# Altium schematic symbol library TSC.SchLib: 34 symbols
Pins are listed as number, name and electrical type; pins without a type are passive.

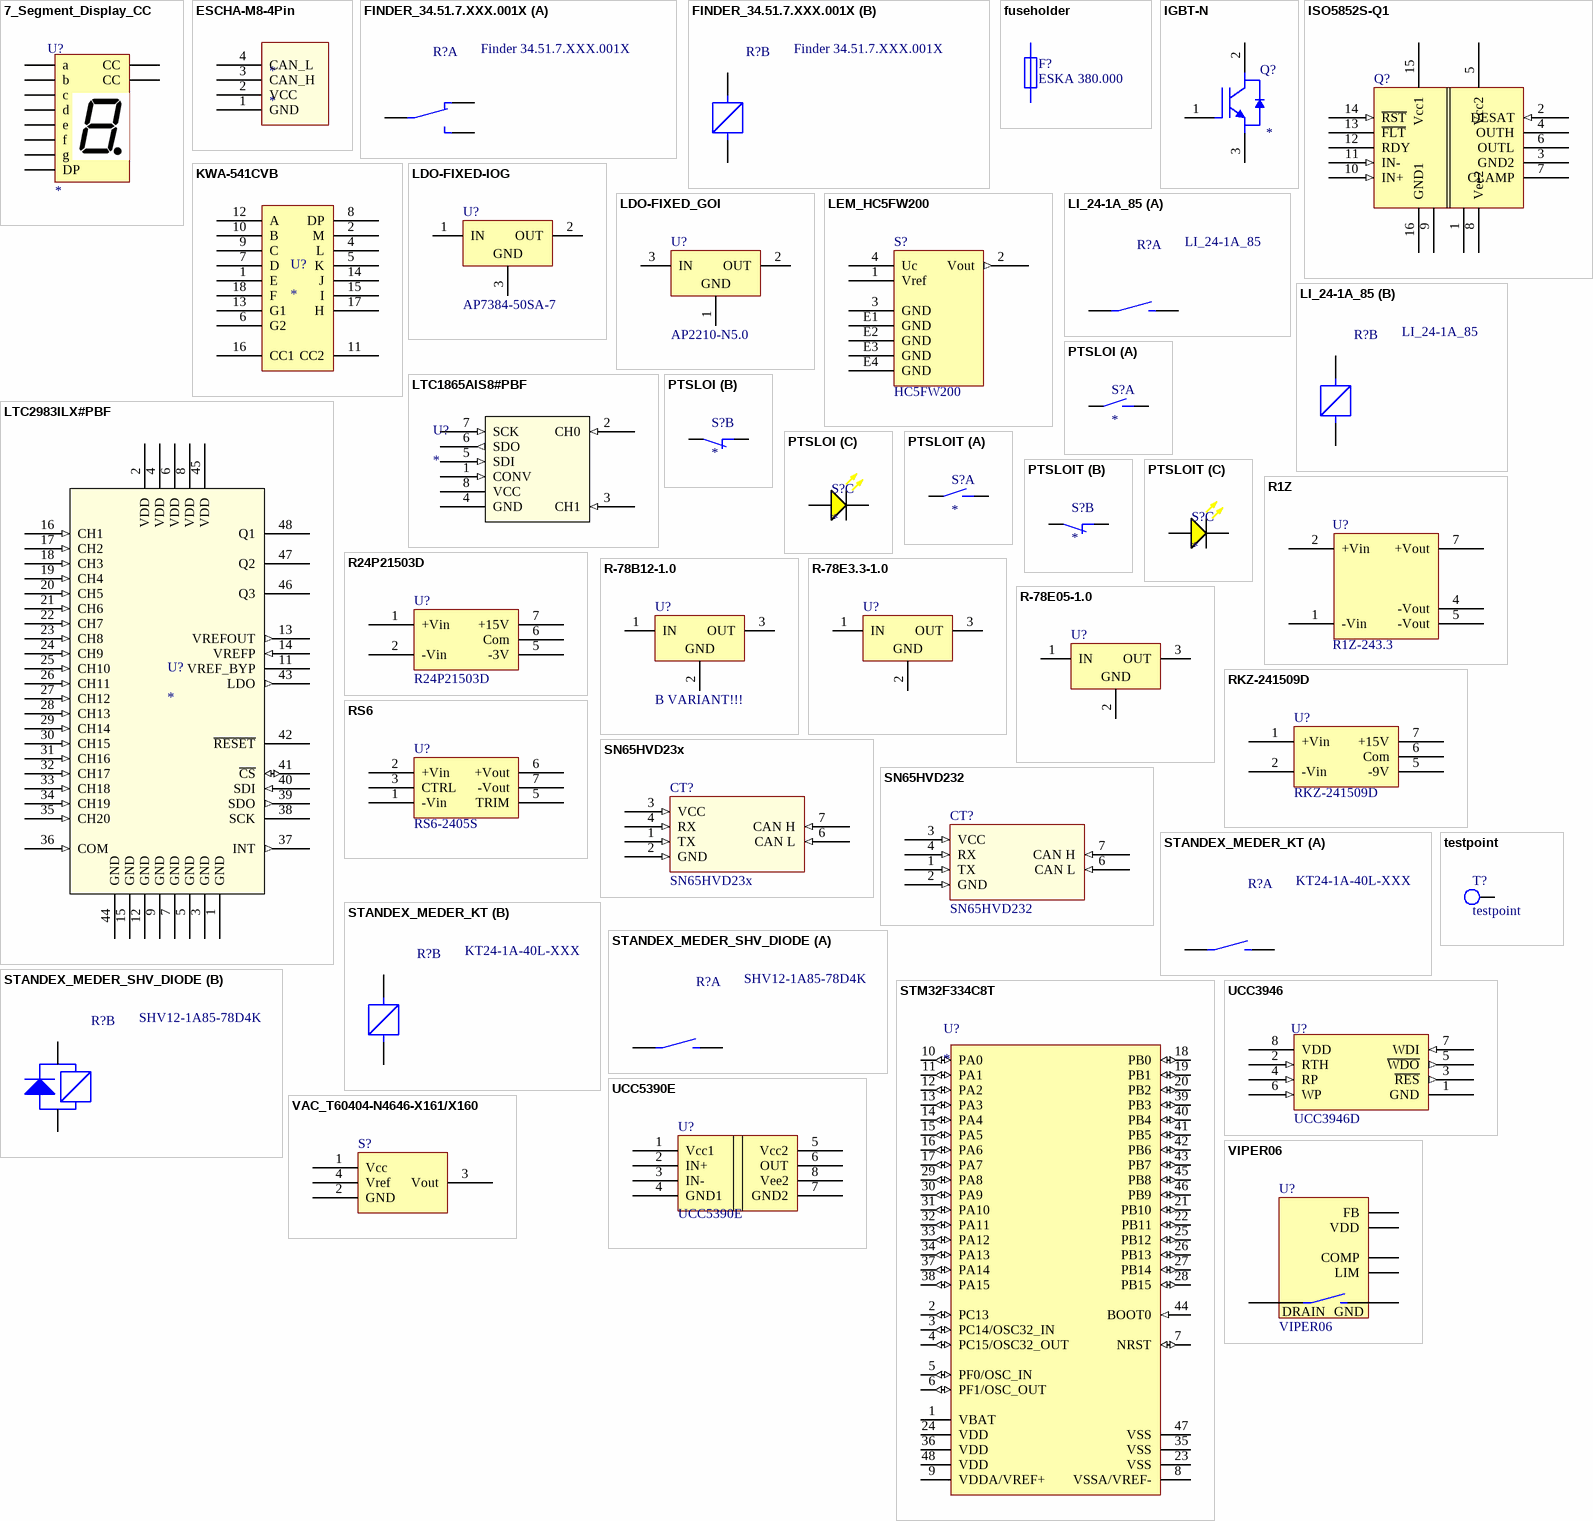
[diagram p0: symbols 7_Segment_Display_CC to VIPER06]

## 7_Segment_Display_CC
designator U?
footprint SA-SC39-11 (Kingbright SA-SC39-11 footprint); pin to pad a>10 b>9 c>7 CC1>3 CC2>8 d>5 DP>6 e>4 f>2 g>1
footprint SA-SC56-11 (Kingbright SA-SC56-11 footprint); pin to pad a>7 b>6 c>4 CC1>3 CC2>8 d>2 DP>5 e>1 f>9 g>10
pins: a, b, c, CC1 CC, CC2 CC, d, DP, e, f, g

## ESCHA-M8-4Pin
designator *
footprint ESCHAM8-4Pin_plug
footprint ESCHAM8-4Pin-receptable
pins: 1 GND, 2 VCC, 3 CAN_H, 4 CAN_L

## FINDER_34.51.7.XXX.001X
designator R?, comment Finder 34.51.7.XXX.001X
printrelay / 5V:   34.51.7.005.001X / 24V: 34.51.7.024.001X / X stands for: / 0: standing / 9: flat
footprint FINDER_34.51.7.XXX.0010
footprint FINDER_34.51.7.XXX.0019
part A pins: 11, 12, 14
part B pins: A1, A2

## fuseholder
designator F?, comment ESKA 380.000
fuseholder
footprint ESKA 380.000 (Socket for automotive fuses)
pins: 1, 2

## IGBT-N
designator Q?
footprint HiP247_flat
pins: 1 G, 2 C, 3 E

## ISO5852S-Q1
designator Q?  (value not drawn)
High-CMTI 2.5-A and 5-A Reinforced Isolated IGBT, MOSFET Gate Driver  With Split Outputs and Active Protection Features
footprint DW0016B
pins: 1 Vee2 (power), 2 DESAT (in), 3 GND2 (power), 4 OUTH (oe), 5 Vcc2 (power), 6 OUTL (oc), 7 CLAMP (oc), 8 Vee2 (power), 9 GND1 (power), 10 IN+ (in), 11 IN- (in), 12 RDY (oc), 13 ~{FLT} (oc), 14 ~{RST} (in), 15 Vcc1 (power), 16 GND1 (power)

## KWA-541CVB
designator U?
footprint KWA-541CVB (common cathode dual digit alphanumeric display)
pins: 1 E, 2 M, 4 L, 5 K, 6 G2, 7 D, 8 DP, 9 C, 10 B, 11 CC2, 12 A, 13 G1, 14 J, 15 I, 16 CC1, 17 H, 18 F

## LDO-FIXED-IOG
designator U?, comment AP7384-50SA-7
Fixed LDO / AP7384-50SA-7: 5V 50mA; 500mV dropout
footprint SOT23 (SOT23, 3-Leads, Body 2,90x2,45mm, Pitch 0,95mm, IPC Medium Density)
pins: 1 IN (power), 2 OUT (power), 3 GND (power)

## LDO-FIXED_GOI
designator U?, comment AP2210-N5.0
Fixed LDO / AP2210-N5.0: 5V 350mA; 250mV dropout
footprint SOT23 (SOT23, 3-Leads, Body 2,90x2,45mm, Pitch 0,95mm, IPC Medium Density)
pins: 1 GND (power), 2 OUT (power), 3 IN (power)

## LEM_HC5FW200
designator S?, comment HC5FW200
AUTOMOTIVE CURRENT TRANSDUCER OPEN LOOP
footprint LEM_HC5FW200
pins: 1 Vref, 2 Vout (out), 3 GND (power), 4 Uc (power), E1 GND (power), E2 GND (power), E3 GND (power), E4 GND (power)

## LI_24-1A_85
designator R?
LI   Series  Reed   Relays
footprint MEDER_LI (LI Reed Relay)
part A pins: 1, 2
part B pins: 3, 4

## LTC1865AIS8#PBF
designator U?
16-Bit 250ksps dual-channel ADC; Manufacturer_Part_Number: ltc1865ais8#pbf; Vendor: Linear Technology; Value: Value; Type: Type; RefDes: RefDes
footprint SO-8_S
footprint SO-8_S-M
footprint SO-8_S-L
pins: 1 CONV (in), 2 CH0 (in), 3 CH1 (in), 4 GND (power), 5 SDI (in), 6 SDO (out), 7 SCK (in), 8 VCC (power)

## LTC2983ILX#PBF
designator U?
Multi-Sensor High Accuracy  Digital Temperature  Measurement System; Manufacturer_Part_Number: ltc2983ilx#pbf; Vendor: Linear Technology; Value: Value; Type: Type; RefDes: RefDes
footprint LQFP-48_LX
footprint LQFP-48_LX-M
footprint LQFP-48_LX-L
pins: 1 GND (power), 2 VDD (power), 3 GND (power), 4 VDD (power), 5 GND (power), 6 VDD (power), 7 GND (power), 8 VDD (power), 9 GND (power), 11 VREF_BYP, 12 GND (power), 13 VREFOUT (out), 14 VREFP (in), 15 GND (power), 16 CH1 (in), 17 CH2 (in), 18 CH3 (in), 19 CH4 (in), 20 CH5 (in), 21 CH6 (in), 22 CH7 (in), 23 CH8 (in), 24 CH9 (in), 25 CH10 (in), 26 CH11 (in), 27 CH12 (in), 28 CH13 (in), 29 CH14 (in), 30 CH15 (in), 31 CH16 (in), 32 CH17 (in), 33 CH18 (in), 34 CH19 (in), 35 CH20 (in), 36 COM (in), 37 INT (out), 38 SCK, 39 SDO (out), 40 SDI (in), 41 ~{CS} (io), 42 ~{RESET}, 43 LDO (out), 44 GND (power), 45 VDD (power), 46 Q3, 47 Q2, 48 Q1

## PTSLOI
designator S?
footprint PTSLOI
part A pins: 23, 24
part B pins: 11, 12
part C pins: X1 Anode, X2 Cathode

## PTSLOIT
designator S?
footprint PTSLOIT
part A pins: 23, 24
part B pins: 11, 12
part C pins: X1 Anode, X2 Cathode

## R1Z
designator U?, comment R1Z-243.3
Recom isolated DC/DC converter
footprint RECOM-SMD-10-Pin
pins: 1 -Vin, 2 +Vin, 4 -Vout, 5 -Vout, 7 +Vout

## R24P21503D
designator U?
Isolated 24V to 15/-3V DC/DC Converter for SiC Applications
footprint SIP7_Recom
pins: 1 +Vin, 2 -Vin, 5 -3V, 6 Com, 7 +15V

## R-78B12-1.0
designator U?, comment B VARIANT!!!
Nonisolated 5V Switchmode converter
footprint SIP3_RECOM_B
pins: 1 IN (power), 2 GND (power), 3 OUT (power)

## R-78E3.3-1.0
designator U?
Nonisolated 3.3V Switchmode converter
footprint SIP3_RECOM
pins: 1 IN (power), 2 GND (power), 3 OUT (power)

## R-78E05-1.0
designator U?
Nonisolated 5V Switchmode converter
footprint SIP3_RECOM
pins: 1 IN (power), 2 GND (power), 3 OUT (power)

## RKZ-241509D
designator U?
Isolated 24V to +15V/-9V DC/DC Converter
footprint SIP7_Recom
pins: 1 +Vin, 2 -Vin, 5 -9V, 6 Com, 7 +15V

## RS6
designator U?, comment RS6-2405S
Recom isolated DC/DC converter
footprint SIP8_Recom
pins: 1 -Vin, 2 +Vin, 3 CTRL, 5 TRIM, 6 +Vout, 7 -Vout

## SN65HVD23x
designator CT?
Standard CAN-Transceiver 3.3V / All version-specific pins tied to GND to enable interoperability
footprint SOIC8 CAN-Transceiver-Multi (SOIC, 8-Leads, Body 4,90x4,00mm, Pitch 1,27mm, IPC Medium Density)
pins: 1 TX (in), 2 GND (in), 3 VCC (in), 4 RX (in), 6 CAN L (in), 7 CAN H (in)

## SN65HVD232
designator CT?
Standard CAN-Transciever 3.3V
footprint SOIC8 CAN-Transceiver (SOIC, 8-Leads, Body 4,90x4,00mm, Pitch 1,27mm, IPC Medium Density)
pins: 1 TX (in), 2 GND (in), 3 VCC (in), 4 RX (in), 5 NC (hiz) hidden, 6 CAN L (in), 7 CAN H (in), 8 NC (hiz) hidden

## STANDEX_MEDER_KT
designator R?, comment KT24-1A-40L-XXX
1000VDC reed relay / 24V coil
footprint STANDEX_KT_SMD (HV Reed Relay)
footprint STANDEX_KT_THT (HV Reed Relay)
part A pins: S1, S2
part B pins: X1, X2

## STANDEX_MEDER_SHV_DIODE
designator R?, comment SHV12-1A85-78D4K
1000VDC reed relay / 12V coil / 500Ohm
footprint STANDEX_SHV (HV Reed Relay)
part A pins: 1, 4
part B pins: 2, 3

## STM32F334C8T
designator U?
footprint STM-LQFP48_M (QFP, 48-Leads, Body 7x7mm, Pitch 0.5mm, IPC Low Density)
pins: 1 VBAT (power) "Backup power supply", 2 PC13 (io) "PC13/TIM1_CH1N/RTC_TAMP1/RTC_TS/RTC_OUT/WKUP2", 3 PC14/OSC32_IN (io), 4 PC15/OSC32_OUT (io), 5 PF0/OSC_IN (io) "PF0/TIM1_CH3N/OSC_IN", 6 PF1/OSC_OUT (io), 7 NRST (io) "Device reset input/internal reset output (active low)", 8 VSSA/VREF- (power) "Analog ground/Negative reference voltage", 9 VDDA/VREF+ (power) "Analog power supply/Positive reference voltage", 10 PA0 (io) "PA0/TIM2_CH1/TIM2_ETR,TSC_G1_IO1,USART2_CTS,EVENTOUT/ADC1_IN1,RTC_TAMP2/WKUP1", 11 PA1 (io) "PA1/TIM2_CH2,TSC_G1_IO2,USART2_RTS_DE,TIM15_CH1N,EVENTOUT/ADC1_IN2,RTC_REFIN", 12 PA2 (io) "PA2/TIM2_CH3,TSC_G1_IO3,USART2_TX,COMP2_OUT,TIM15_CH1,EVENTOUT/ADC1_IN3,COMP2_INM", 13 PA3 (io) "PA3/TIM2_CH4,TSC_G1_IO4,USART2_RX,TIM15_CH2,EVENTOUT/ADC1_IN4", 14 PA4 (io) "PA4/TIM3_CH2,TSC_G2_IO1,SPI1_NSS,USART2_CK,EVENTOUT/ADC2_IN1,DAC1_OUT1,COMP2_INM4,COMP4_INM4,COMP6_INM4", 15 PA5 (io) "PA5/TIM2_CH1/TIM2_ETR,TSC_G2_IO2,SPI1_SCK,EVENTOUT/ADC2_IN2,DAC1_OUT2,OPAMP2_VINM", 16 PA6 (io) "PA6/TIM16_CH1,TIM3_CH1,TSC_G2_IO3,SPI1_MISO,TIM1_BKIN,OPAMP2_DIG,EVENTOUT/ADC2_IN3,DAC2_OUT1,OPAMP2_VOUT", 17 PA7 (io) "PA7/TIM17_CH1,TIM3_CH2,TSC_G2_IO4,SPI1_MOSI,TIM1_CH1N,EVENTOUT/ADC2_IN4,COMP2_INP,OPAMP2_VINP", 18 PB0 (io) "PB0/TIM3_CH3,TSC_G3_IO2,TIM1_CH2N,EVENTOUT/ADC1_IN11,COMP4_INP,OPAMP2_VINP", 19 PB1 (io) "PB1/TIM3_CH4,TSC_G3_IO3,TIM1_CH3N,COMP4_OUT,HRTIM1_SCOUT,EVENTOUT/ADC1_IN12", 20 PB2 (io) "PB2/TSC_G3_IO4,HRTIM_SCIN,EVENTOUT/ADC2_IN12,COMP4_INM", 21 PB10 (io) "PB10/TIM2_CH3,TSC_SYNC,USART3_TX,HRTIM1_FLT3,EVENTOUT", 22 PB11 (io) "PB11/TIM2_CH4,TSC_G6_IO1,USART3_RX,HRTIM1_FLT4,EVENTOUT/COMP6_INP", 23 VSS (power) "Digital ground", 24 VDD (power) "Digital power supply", 25 PB12 (io) "PB12/TSC_G6_IO2,TIM1_BKIN,USART3_CK,HRTIM1_CHC1,EVENTOUT/ADC2_IN13", 26 PB13 (io) "PB13/TSC_G6_IO3,TIM1_CH1N,USART3_CTS,HRTIM1_CHC2,EVENTOUT/ADC1_IN13", 27 PB14 (io) "PB14/TIM15_CH1,TSC_G6_IO4,TIM1_CH2N,USART3_RTS_DE,HRTIM1_CHD1,EVENTOUT/ADC2_IN14,OPAMP2_VINP", 28 PB15 (io) "PB15/TIM15_CH2,TIM15_CH1N,TIM1_CH3N,HRTIM1_CHD2,EVENTOUT/ADC2_IN15,COMP6_INM,RTC_REFIN", 29 PA8 (io) "PA8/MCO,TIM1_CH1,USART1_CK,HRTIM1_CHA1,EVENTOUT", 30 PA9 (io) "PA9/TSC_G4_IO1,TIM1_CH2,USART1_TX,TIM15_BKIN,TIM2_CH3,HRTIM1_CHA2,EVENTOUT", 31 PA10 (io) "PA10/TIM17_BKIN,TSC_G4_IO2,TIM1_CH3,USART1_RX,COMP6_OUT,TIM2_CH4,HRTIM1_CHB1,EVENTOUT", 32 PA11 (io) "PA11/TIM1_CH1N,USART1_CTS,CAN_RX,TIM1_CH4,TIM1_BKIN2,HRTIM1_CHB2,EVENTOUT", 33 PA12 (io) "PA12/TIM16_CH1,TIM1_CH2N,USART1_RTS_DE,COMP2_OUT,CAN_TX,TIM1_ETR,HRTIM1_FLT1,EVENTOUT", 34 PA13 (io) "PA13/JTMS/SWDAT,TIM16_CH1N,TSC_G4_IO3,IR_OUT,USART3_CTS,EVENTOUT", 35 VSS (power), 36 VDD (power), 37 PA14 (io) "PA14/JTCK/SWCLK,TSC_G4_IO4,I2C1_SDA,TIM1_BKIN,USART2_TX,EVENTOUT", 38 PA15 (io) "PA15/JTDI,TIM2_CH1/TIM2_ETR,TSC_SYNC,I2C1_SCL,SPI1_NSS,USART2_RX,TIM1_BKIN,HRTIM1_FLT2,EVENTOUT", 39 PB3 (io) "PB3/JTDO/TRACESWO,TIM2_CH2,TSC_G5_IO1,SPI1_SCK,USART2_TX,TIM3_ETR,HRTIM1_SCOUT,HRTIM1_EEV9,EVENTOUT", 40 PB4 (io) "PB4/NJTRST,TIM16_CH1,TIM3_CH1,TSC_G5_IO2,SPI1_MISO,USART2_RX,TIM17_BKIN,HRTIM1_EEV7,EVENTOUT", 41 PB5 (io) "PB5/TIM16_BKIN,TIM3_CH2,I2C1_SMBA,SPI1_MOSI,USART2_CK,TIM17_CH1,HRTIM1_EEV6,EVENTOUT", 42 PB6 (io) "PB6/TIM16_CH1N,TSC_G5_IO3,I2C1_SCL,USART1_TX,HRTIM1_SCIN,HRTIM1_EEV4,EVENTOUT", 43 PB7 (io) "PB7/TIM17_CH1N,TSC_G5_IO4,I2C1_SDA,USART1_RX,TIM3_CH4,HRTIM1_EEV3,EVENTOUT", 44 BOOT0 (in), 45 PB8 (io) "PB8/TIM16_CH1,TSC_SYNC,I2C1_SCL,USART3_RX,CAN_RX,TIM1_BKIN,HRTIM1_EEV8,EVENTOUT", 46 PB9 (io) "PB9/TIM17_CH1,I2C1_SDA,IR_OUT,USART3_TX,COMP2_OUT,CAN_TX,HRTIM1_EEV5,EVENTOUT", 47 VSS (power), 48 VDD (power)

## testpoint
designator T?
footprint TESTPOINT_1.27mm (1.27mm radius testpoint)
footprint TESTPOINT_2.54mm (2.54mm radius testpoint)
pins: 1

## UCC3946
designator U?, comment UCC3946D
Microprocessor supervisor with watchdog timer
footprint SOIC8 (SOIC, 8-Leads, Body 4,90x3,90mm, Pitch 1,27mm, IPC Low Density)
pins: 1 GND (power), 2 RTH (in), 3 ~{RES} (out), 4 RP (in), 5 ~{WDO} (out), 6 WP (in), 7 WDI (in), 8 VDD (power)

## UCC5390E
designator U?
Bipolar IGBT driver
footprint SOIC8 (SOIC, 8-Leads, Body 4,90x3,90mm, Pitch 1,27mm, IPC Low Density)
pins: 1 Vcc1, 2 IN+, 3 IN-, 4 GND1, 5 Vcc2, 6 OUT, 7 GND2, 8 Vee2

## VAC_T60404-N4646-X161/X160
designator S?  (value not drawn)
Vacuumschmelze Currentsensor
footprint 4646-X160
pins: 1 Vcc, 2 GND, 3 Vout, 4 Vref

## VIPER06
designator U?
Energy saving high voltage converter for direct feedback
footprint SSO10_VIPER06
pins: 1 GND, 2 VDD, 3 LIM, 4 FB, 5 COMP, 6 DRAIN

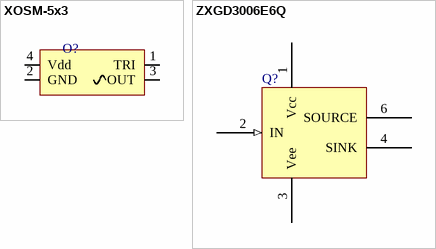
[diagram p1: symbols XOSM-5x3 to ZXGD3006E6Q]

## XOSM-5x3
designator O?  (value not drawn)
ultra miniature package clock  oscillator
footprint XOSM-533
footprint XOSM-573
pins: 1 TRI, 2 GND, 3 OUT, 4 Vdd

## ZXGD3006E6Q
designator Q?  (value not drawn)
40V 10A GATE DRIVER IN SOT26
footprint SOT26 (SOT26 ZXGD3006E6)
pins: 1 Vcc (power), 2 IN (in), 3 Vee (power), 4 SINK (oc), 6 SOURCE (oe)